# Altium footprint library MiscModules1.PcbLib: 2 footprints
Each footprint in its own frame and in the unit in brackets; x right, y up, seen from the top. Pads: shape width x height; smd on the part's side, far side on the other; paste and mask are expansions set on the pad; w line width, h text height; cw(c..) or ccw(c..) is an arc to the next point about the centre after c.
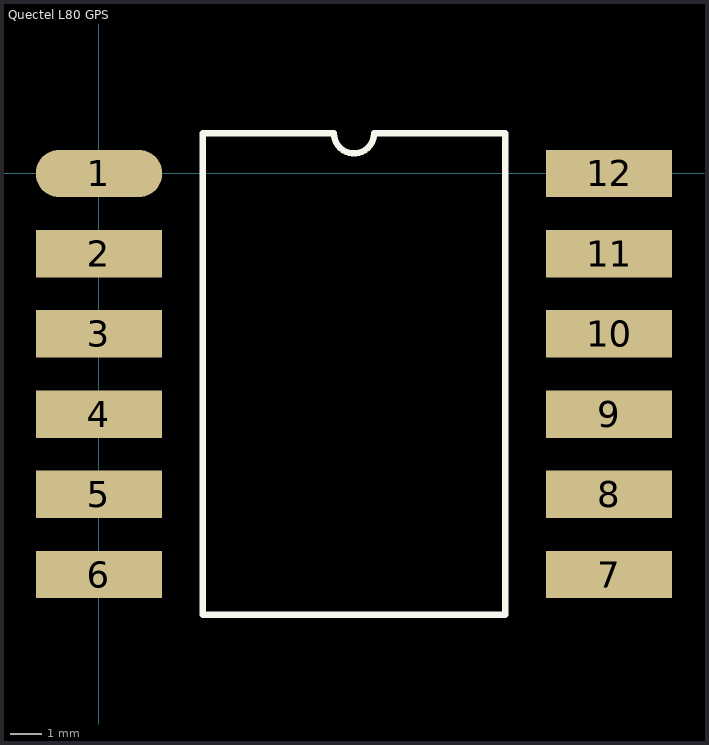
[diagram p0: the footprints below, top view; thin cyan lines are the x and y axes]

## PCBComponent_1 [mm]

## Quectel L80 GPS [mm]
pads (12):
  oval 4x1.5 smd: 1(0,0)
  rect 4x1.5 smd: 2(0,-2.54) 3(0,-5.08) 4(0,-7.62) 5(0,-10.16) 6(0,-12.7) 7(16.15,-12.7) 8(16.15,-10.16) 9(16.15,-7.62) 10(16.15,-5.08) 11(16.15,-2.54) 12(16.15,0)
Top Overlay:
  lines w0.2: 3.285,-13.97 12.865,-13.97 12.865,1.27 8.71,1.27 cw(c8.075,1.27) 7.44,1.27 3.285,1.27 3.285,-13.97
3D body "User Library-quectel-l80.STEP": height 6.95, standoff 0, extent 0.066,-13.843 16.066,2.157